# EAGLE library part CAN485_PRO_MINI (library SparkFun_Lib)
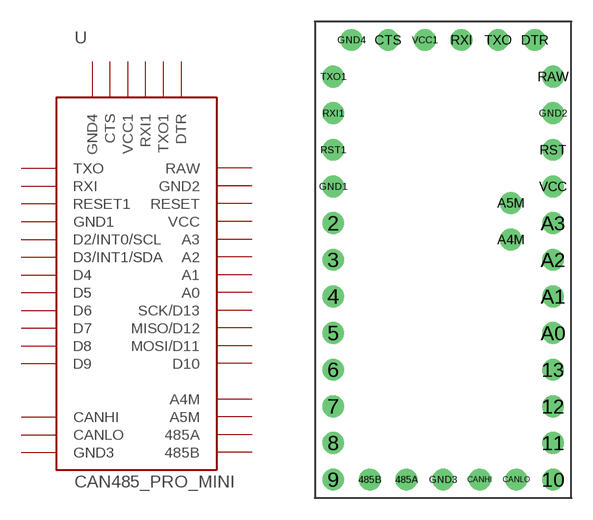
[diagram p25: symbol with the pads of CAN485_PRO_MINI; footprint CAN485_PRO_MINI]

Designator prefix -

## CAN485_PRO_MINIPRO_MINI_COMPATIBLE  [CAN485_PRO_MINI]
2  D2/INT0/SCL
3  D3/INT1/SDA
4  D4
5  D5
6  D6
7  D7
8  D8
9  D9
10  D10
11  MOSI/D11
12  MISO/D12
13  SCK/D13
485A  485A
485B  485B
A0  A0
A1  A1
A2  A2
A3  A3
A4M  A4M
A5M  A5M
CANHI  CANHI
CANLO  CANLO
CTS  CTS
DTR  DTR
GND1  GND1
GND2  GND2
GND3  GND3
GND4  GND4
RAW  RAW
RST  RESET
RST1  RESET1
RXI  RXI
RXI1  RXI1
TXO  TXO
TXO1  TXO1
VCC  VCC
VCC1  VCC1

## Footprint CAN485_PRO_MINI (pad centres in mm)
drill 1: 2 -7.62,3.81; 3 -7.62,1.27; 4 -7.62,-1.27; 5 -7.62,-3.81; 6 -7.62,-6.35; 7 -7.62,-8.89; 8 -7.62,-11.43; 9 -7.62,-13.97; 10 7.62,-13.97; 11 7.62,-11.43; 12 7.62,-8.89; 13 7.62,-6.35; 485A -2.54,-13.97; 485B -5.08,-13.97; A0 7.62,-3.81; A1 7.62,-1.27; A2 7.62,1.27; A3 7.62,3.81; A4M 4.699,2.667; A5M 4.699,5.207; CANHI 2.54,-13.97; CANLO 5.08,-13.97; CTS -3.81,16.51; DTR 6.35,16.51; GND1 -7.62,6.35; GND2 7.62,11.43; GND3 0,-13.97; GND4 -6.35,16.51; RAW 7.62,13.97; RST 7.62,8.89; RST1 -7.62,8.89; RXI 1.27,16.51; RXI1 -7.62,11.43; TXO 3.81,16.51; TXO1 -7.62,13.97; VCC 7.62,6.35; VCC1 -1.27,16.51